# Altium integrated library CropSenseMovement.IntLib: 8 symbols
Pins are listed as number, name and electrical type; pins without a type are passive.

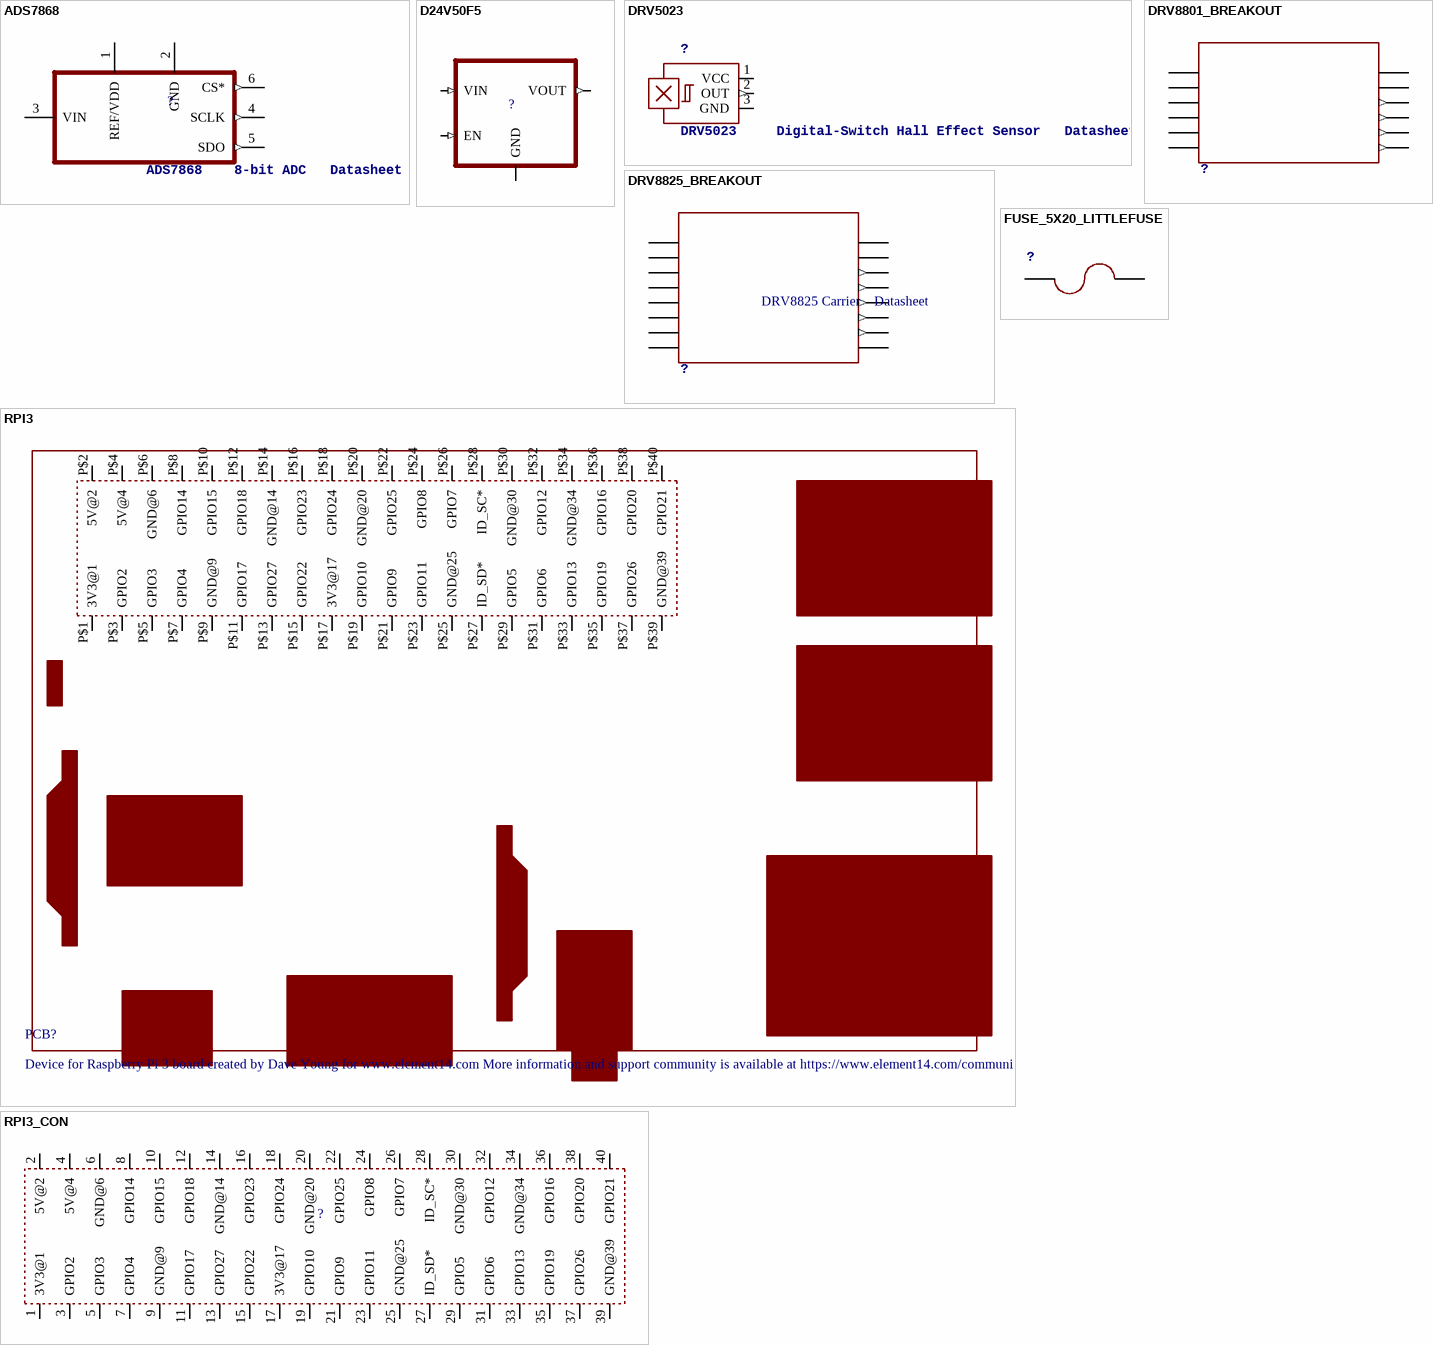
[diagram p0: symbols ADS7868 to RPI3_CON]

## ADS7868
designator ?, comment ADS7868    8-bit ADC   Datasheet
footprint SOT-23-6
pins: 1 REF/VDD (power), 2 GND (power), 3 VIN, 4 SCLK (out), 5 SDO (out), 6 CS* (out)

## D24V50F5
designator ?
footprint D24VXXFX_BREAKOUT
pins: EN (in), GND, VIN (in), VOUT (out)

## DRV5023
designator ?, comment DRV5023     Digital-Switch Hall Effect Sensor   Datasheet
footprint SOT-23
pins: 1 VCC (power), 2 OUT (out), 3 GND (power)

## DRV8801_BREAKOUT
designator ?
footprint DRV8801_BREAKOUT
pins: BRAKE, CS (power), DIR, FAULT* (power), GND@0, GND@1 (out), OUT+ (out), OUT- (out), PWM, SLEEP*, VDD, VMM (out)

## DRV8825_BREAKOUT
designator ?, comment DRV8825 Carrier    Datasheet
footprint DRV8825_BREAKOUT
pins: A1 (out), A2 (out), B1 (out), B2 (out), DIR, EN, FAULT (out), GND (power), GND0 (power), M0, M1, M2, RST, SLP SLEEP, STEP, VMOT (power)

## FUSE_5X20_LITTLEFUSE
designator ?
footprint 5X20MM_LITTLEFUSE_CARTRIDGE
pins: 1, 2

## RPI3
designator PCB?, comment Device for Raspberry Pi 3 board created by Dave Young for www.element14.com More information and support community is available at https://www.element14.com/community/community/raspberry-pi
footprint RPI3
pins: P$1 3V3@1, P$2 5V@2, P$3 GPIO2, P$4 5V@4, P$5 GPIO3, P$6 GND@6, P$7 GPIO4, P$8 GPIO14, P$9 GND@9, P$10 GPIO15, P$11 GPIO17, P$12 GPIO18, P$13 GPIO27, P$14 GND@14, P$15 GPIO22, P$16 GPIO23, P$17 3V3@17, P$18 GPIO24, P$19 GPIO10, P$20 GND@20, P$21 GPIO9, P$22 GPIO25, P$23 GPIO11, P$24 GPIO8, P$25 GND@25, P$26 GPIO7, P$27 ID_SD*, P$28 ID_SC*, P$29 GPIO5, P$30 GND@30, P$31 GPIO6, P$32 GPIO12, P$33 GPIO13, P$34 GND@34, P$35 GPIO19, P$36 GPIO16, P$37 GPIO26, P$38 GPIO20, P$39 GND@39, P$40 GPIO21

## RPI3_CON
designator ?
footprint CONNECTOR
pins: 1 3V3@1, 2 5V@2, 3 GPIO2, 4 5V@4, 5 GPIO3, 6 GND@6, 7 GPIO4, 8 GPIO14, 9 GND@9, 10 GPIO15, 11 GPIO17, 12 GPIO18, 13 GPIO27, 14 GND@14, 15 GPIO22, 16 GPIO23, 17 3V3@17, 18 GPIO24, 19 GPIO10, 20 GND@20, 21 GPIO9, 22 GPIO25, 23 GPIO11, 24 GPIO8, 25 GND@25, 26 GPIO7, 27 ID_SD*, 28 ID_SC*, 29 GPIO5, 30 GND@30, 31 GPIO6, 32 GPIO12, 33 GPIO13, 34 GND@34, 35 GPIO19, 36 GPIO16, 37 GPIO26, 38 GPIO20, 39 GND@39, 40 GPIO21